# Altium footprint library FootPrintLib_6.PcbLib: 588 footprints (part 6 of 37)
Each footprint in its own frame and in the unit in brackets; x right, y up, seen from the top. Pads: shape width x height; smd on the part's side, far side on the other; paste and mask are expansions set on the pad; w line width, h text height; cw(c..) or ccw(c..) is an arc to the next point about the centre after c.
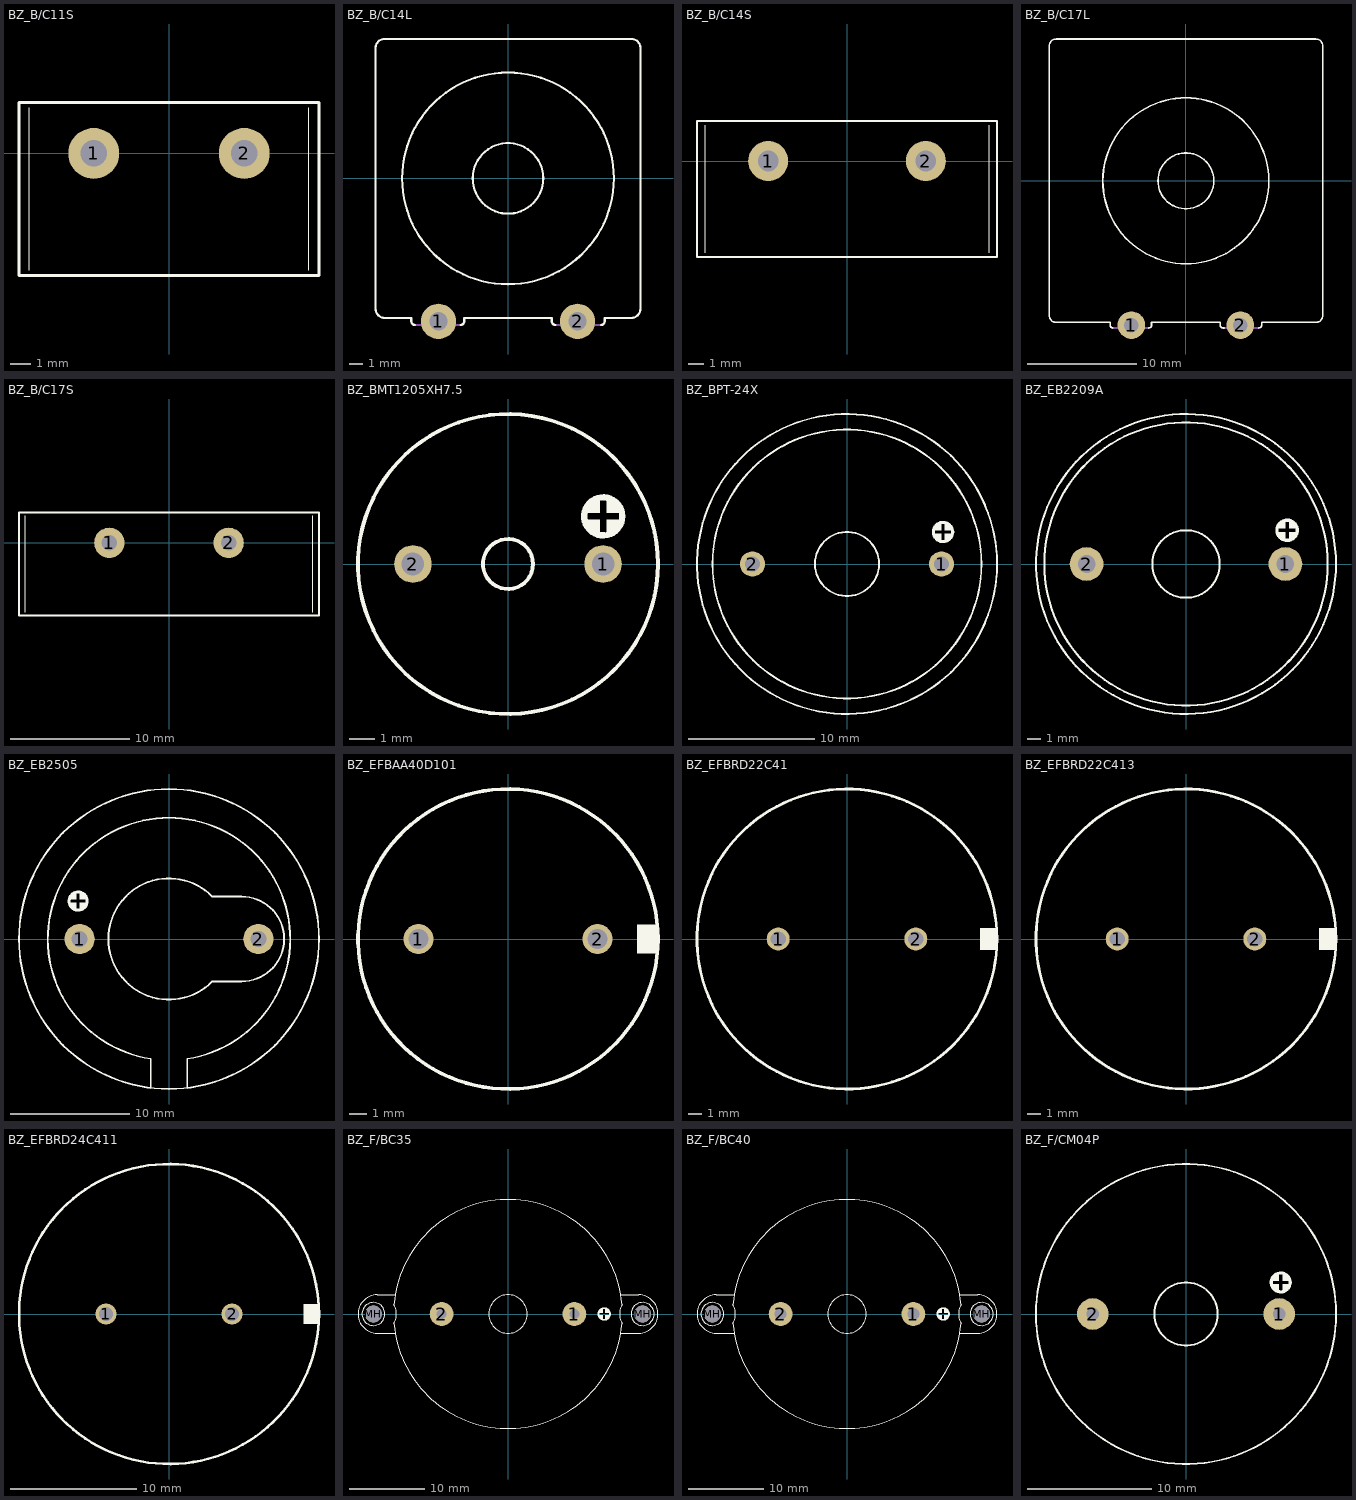
[diagram p5: the footprints below, top view; thin cyan lines are the x and y axes]

## BZ_B/C11S [mil] "BUZZER  Source: Buerklin"
pads (2):
  round 100 hole 52: 1(-148,0) 2(148,0)
Top Overlay:
  lines w2: -275,-230 -275,90 ; 275,-230 275,90
  lines w6: -295,-240 295,-240 295,100 -295,100 -295,-240

## BZ_B/C14L [mil] "BUZZER  Source: Buerklin"
pads (2):
  round 100 hole 52: 1(-197,-405) 2(197,-405)
Top Overlay:
  circle w6: c0,0 r100
  circle w6: c0,0 r300
  lines w6: -264,-415 cw(c-264,-405) -274,-405 -274,-395 -350,-395 cw(c-350,-370) -375,-370 -375,370 cw(c-350,370) -350,395 350,395 cw(c350,370) 375,370 375,-370 cw(c350,-370) 350,-395 274,-395 274,-405 cw(c264,-405) 264,-415 ; -134,-415 ccw(c-134,-405) -124,-405 -124,-395 124,-395 124,-405 ccw(c134,-405) 134,-415
Mechanical 1:
  lines w6: -264,-415 -256.18,-415 -234,-415 ccw(c-234,-405) -224,-405 ; -134,-415 -137.83,-415 -164,-415 cw(c-164,-405) -174,-405 ; 134,-415 137.83,-415 164,-415 ccw(c164,-405) 174,-405 ; 264,-415 256.18,-415 234,-415 cw(c234,-405) 224,-405 ; -224,-405 cw(c-214,-405) -214,-395 -184,-395 cw(c-184,-405) -174,-405 ; -224,-405 -224,-420 ccw(c-214,-420) -214,-430 -184,-430 ccw(c-184,-420) -174,-420 -174,-405 ; 174,-405 cw(c184,-405) 184,-395 214,-395 cw(c214,-405) 224,-405 ; 174,-405 174,-420 ccw(c184,-420) 184,-430 214,-430 ccw(c214,-420) 224,-420 224,-405

## BZ_B/C14S [mil] "BUZZER  Source: Buerklin"
pads (2):
  round 100 hole 52: 1(-197,0) 2(197,0)
Top Overlay:
  lines w2: -355,-230 -355,90 ; 355,-230 355,90
  lines w6: -375,-240 375,-240 375,100 -375,100 -375,-240

## BZ_B/C17L [mil] "BUZZER  Source: Buerklin"
pads (2):
  round 100 hole 52: 1(-197,-522) 2(197,-522)
Top Overlay:
  circle w6: c0,0 r101
  circle w6: c0,0 r300
  lines w6: -264,-532 cw(c-264,-522) -274,-522 -274,-512 -469,-512 cw(c-469,-487) -494,-487 -494,488 cw(c-469,488) -469,513 470,513 cw(c470,488) 495,488 495,-487 cw(c470,-487) 470,-512 274,-512 274,-522 cw(c264,-522) 264,-532 ; -134,-532 ccw(c-134,-522) -124,-522 -124,-512 124,-512 124,-522 ccw(c134,-522) 134,-532 137.83,-532.01
Mechanical 1:
  lines w6: -264,-532 -256.18,-532.01 -234,-532 ccw(c-234,-522) -224,-522 ; -134,-532 -137.83,-532.01 -164,-532 cw(c-164,-522) -174,-522 ; 137.83,-532.01 164,-532 ccw(c164,-522) 174,-522 ; 264,-532 256.18,-532.01 234,-532 cw(c234,-522) 224,-522 ; -224,-522 cw(c-214,-522) -214,-512 -184,-512 cw(c-184,-522) -174,-522 ; -224,-522 -224,-537 ccw(c-214,-537) -214,-547 -184,-547 ccw(c-184,-537) -174,-537 -174,-522 ; 174,-522 cw(c184,-522) 184,-512 214,-512 cw(c214,-522) 224,-522 ; 174,-522 174,-537 ccw(c184,-537) 184,-547 214,-547 ccw(c214,-537) 224,-537 224,-522

## BZ_B/C17S [mil] "BUZZER  Source: Buerklin"
pads (2):
  round 100 hole 52: 1(-197,0) 2(197,0)
Top Overlay:
  lines w2: -475,-230 -475,90 ; 475,-230 475,90
  lines w6: -495,-240 -495,100 495,100 495,-240 -495,-240

## BZ_BMT1205XH7.5 [mm] "MAGNETIC TRANSDUCER  Source: http:\\www.be-star.com"
pads (2):
  round 1.5 hole 0.9: 1(3.8,0) 2(-3.8,0)
Top Overlay:
  circle w0.152: c0,0 r1
  circle w0.152: c0,0 r6
  circle w0.254: c3.81,1.905 r0.762
  rectangle: 3.175,1.27 3.683,1.778
  rectangle: 3.937,1.27 4.445,1.778
  rectangle: 3.937,2.032 4.445,2.536
  rectangle: 3.175,2.032 3.683,2.536

## BZ_BPT-24X [mm] "Piezo Buzzer 12V  Source: http:\\www.be-star.com"
pads (2):
  round 2 hole 1.2: 1(7.5,0) 2(-7.5,0)
Top Overlay:
  circle w0.254: c7.62,2.54 r0.762
  circle w0.152: c0,0 r11.9
  circle w0.152: c0,0 r10.668
  circle w0.152: c0,0 r2.54
  rectangle: 6.985,2.667 7.493,3.171
  rectangle: 7.747,2.667 8.255,3.171
  rectangle: 7.747,1.905 8.255,2.413
  rectangle: 6.985,1.905 7.493,2.413

## BZ_EB2209A [mil] "BUZZER  Source: Buerklin"
pads (2):
  round 100 hole 52: 1(295,0) 2(-295,0)
Top Overlay:
  circle w10: c300,100 r30
  circle w6: c0,0 r445
  circle w6: c0,0 r420
  circle w6: c0,0 r100
  rectangle: 275,105 295,124.84
  rectangle: 305,105 325,124.84
  rectangle: 305,75 325,95
  rectangle: 275,75 295,95

## BZ_EB2505 [mil] "BUZZER  Source: Buerklin"
pads (2):
  round 100 hole 52: 1(-295,0) 2(295,0)
Top Overlay:
  circle w10: c-300,125 r30
  circle w6: c0,0 r495
  rectangle: -325,130 -305,149.84
  rectangle: -295,130 -275,149.84
  rectangle: -295,100 -275,120
  rectangle: -325,100 -305,120
  lines w6: -60,-491.34 -60,-395.47 ; -60,-395.48 cw(c0,0) 60,-395.48 ; 60,-491.34 60,-395.47 ; 142.84,-140 cw(c0.01,0) 142.84,140 240,140 cw(c240,0) 240,-140 142.83,-140

## BZ_EFBAA40D101 [mm] "Piezoelectric Acoustic Transducer  Source: Panbasonic .. 2SC1685.pdf"
pads (2):
  round 1.676 hole 1.1: 1(-5,0) 2(5,0)
Top Overlay:
  circle w0.203: c0,0 r8.375
  rectangle: 7.2,-0.8 8.375,0.8

## BZ_EFBRD22C41 [mm] "Piezoelectric Acoustic Transducer  Source: Panbasonic .. 2SC1685.pdf"
pads (2):
  round 1.676 hole 1.1: 1(-5,0) 2(5,0)
Top Overlay:
  circle w0.203: c0,0 r10.9
  rectangle: 9.675,-0.8 10.85,0.8

## BZ_EFBRD22C413 [mm] "Piezoelectric Acoustic Transducer  Source: Panbasonic .. 2SC1685.pdf"
pads (2):
  round 1.676 hole 1.1: 1(-5,0) 2(5,0)
Top Overlay:
  circle w0.203: c0,0 r10.9
  rectangle: 9.675,-0.8 10.85,0.8

## BZ_EFBRD24C411 [mm] "Piezoelectric Acoustic Transducer  Source: Panbasonic .. 2SC1685.pdf"
pads (2):
  round 1.676 hole 1.1: 1(-5,0) 2(5,0)
Top Overlay:
  circle w0.203: c0,0 r11.9
  rectangle: 10.675,-0.8 11.85,0.8

## BZ_F/BC35 [mil] "BUZZER  Source: Spoerle"
pads (4):
  round 124 hole 52: 1(345,0) 2(-345,0)
  round 87 hole 87 unplated: MH(-700,0) MH(700,0)
Top Overlay:
  circle w6: c700,0 r60
  circle w6: c-700,0 r60
  circle w6: c0,0 r100
  circle w10: c500,0 r30
  rectangle: 475,-25 495,-5
  rectangle: 505,-25 525,-5
  rectangle: 505,5 525,24.84
  rectangle: 475,5 495,24.84
  lines w6: -586.54,-100 -680,-100 cw(c-680,0) -680,100 -586.54,100 ; 586.54,-100 680,-100 ccw(c680,0) 680,100 586.54,100 ; -592.96,-49.23 ccw(c-680,0) -592.96,49.23 cw(c0,0) 592.96,49.23 ccw(c680,0) 592.96,-49.23 cw(c0,0) -592.96,-49.23

## BZ_F/BC40 [mil] "BUZZER  Source: Spoerle"
pads (4):
  round 124 hole 63: 1(345,0) 2(-345,0)
  round 87 hole 87 unplated: MH(-700,0) MH(700,0)
Top Overlay:
  circle w6: c0,0 r100
  circle w6: c-700,0 r60
  circle w6: c700,0 r60
  circle w10: c500,0 r30
  rectangle: 475,-25 495,-5
  rectangle: 505,-25 525,-5
  rectangle: 505,5 525,24.84
  rectangle: 475,5 495,24.84
  lines w6: -586.54,-100 -680,-100 cw(c-680,0) -680,100 -586.54,100 ; 586.54,-100 680,-100 ccw(c680,0) 680,100 586.54,100 ; -592.96,-49.23 ccw(c0,0) 592.96,-49.23 cw(c680,0) 592.96,49.23 ccw(c0,0) -592.96,49.23 cw(c-680,0) -592.96,-49.23

## BZ_F/CM04P [mil] "BUZZER  Source: Buerklin"
pads (2):
  round 100 hole 40: 1(295,0) 2(-295,0)
Top Overlay:
  circle w6: c0,0 r100
  circle w6: c0,0 r475
  circle w10: c300,100 r30
  rectangle: 275,75 295,95
  rectangle: 305,75 325,95
  rectangle: 305,105 325,124.84
  rectangle: 275,105 295,124.84